# Altium schematic symbol library Power Module.SchLib: 3 symbols
Pins are listed as number, name and electrical type; pins without a type are passive.

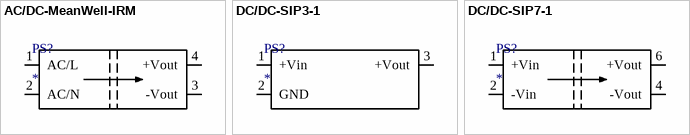
[diagram p0: symbols AC/DC-MeanWell-IRM to DC/DC-SIP7-1]

## AC/DC-MeanWell-IRM
designator PS?
AC/DC-module MeanWell IRM; Name: *
pins: 1 AC/L, 2 AC/N, 3 -Vout, 4 +Vout

## DC/DC-SIP3-1
designator PS?
DC/DC-module SIP3 single output; Name: *
pins: 1 +Vin, 2 GND, 3 +Vout

## DC/DC-SIP7-1
designator PS?
DC/DC-module SIP7 single output; Name: *
pins: 1 +Vin, 2 -Vin, 4 -Vout, 6 +Vout